# Altium footprint library PcbLib1.PcbLib: 2 footprints
Each footprint in its own frame and in the unit in brackets; x right, y up, seen from the top. Pads: shape width x height; smd on the part's side, far side on the other; paste and mask are expansions set on the pad; w line width, h text height; cw(c..) or ccw(c..) is an arc to the next point about the centre after c.
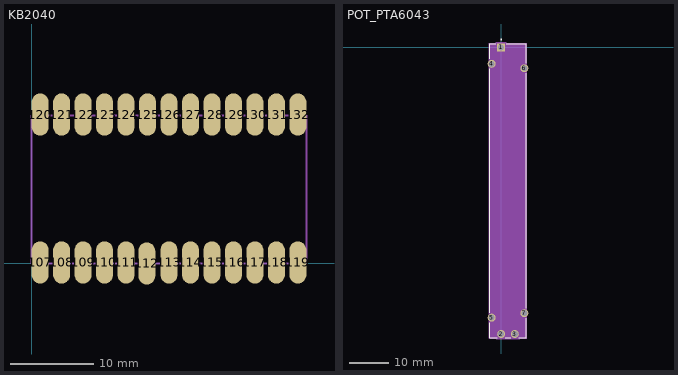
[diagram p0: the footprints below, top view; thin cyan lines are the x and y axes]

## KB2040 [mil]
pads (26):
  oval 80x200 smd: 107(40,5) 108(141.67,5) 109(243.33,5) 110(345,5) 111(446.67,5) 112(545,0) 113(650,5) 114(751.67,5) 115(853.33,5) 116(955,5) 117(1056.67,5) 118(1158.33,5) 119(1260,5) 120(40,705) 121(141.67,705) 122(243.33,705) 123(345,705) 124(446.67,705) 125(548.33,705) 126(650,705) 127(751.67,705) 128(853.33,705) 129(955,705) 130(1056.67,705) 131(1158.33,705) 132(1260,705)
Mechanical 1:
  lines w10: 0,0 0,690 0,700 1300,700 1300,0 0,0
3D body "5302 KB2040.step": height 187.8, standoff 0, extent -47.69,0 1297.69,700

## POT_PTA6043 [mil]
pads (7):
  rect 80x80 / inner round 60 / far side rect 80x80 hole 60 paste-99999 mask+0: 1(0,0)
  round 80 / inner round 60 / far side round 80 hole 60 paste-99999 mask+0: 2(0,-2890) 3(137,-2890) 4(-96.5,-165) 5(-96.5,-2725) 6(233.5,-210) 7(233.5,-2680)
Top Overlay:
  circle w6: c0,80 r5
  lines w6: -113.5,-2775.31 -113.5,-2925 -39.93,-2925 ; -113.5,-2674.69 -113.5,-215.31 ; -113.5,-114.69 -113.5,35 -53.1,35 ; 39.93,-2925 97.07,-2925 ; 53.1,35 250.5,35 250.5,-159.69 ; 176.93,-2925 250.5,-2925 250.5,-2730.31 ; 250.5,-2629.69 250.5,-260.31
Mechanical 13:
  circle w0: c0,15 r5
  region: 118.5,-2526 18.5,-2526 18.5,-356 118.5,-356
  lines w1: -108.5,-2920 -108.5,30 245.5,30 245.5,-2920 -108.5,-2920
  lines w6: 18.5,-2526 118.5,-2526 118.5,-364 18.5,-364 18.5,-2526
Mechanical 15:
  region: 255.5,-2930 187,-2930 187,-2940 -50,-2940 -50,-2930 -118.5,-2930 -118.5,40 -50,40 -50,50 50,50 50,40 255.5,40
  lines w6: -118.5,-2930 -118.5,40 -50,40 -50,50 50,50 50,40 255.5,40 255.5,-2930 187,-2930 187,-2940 -50,-2940 -50,-2930 -118.5,-2930